# Altium footprint library P6母板4.1.PcbLib: 25 footprints (part 2 of 2)
Each footprint in its own frame and in the unit in brackets; x right, y up, seen from the top. Pads: shape width x height; smd on the part's side, far side on the other; paste and mask are expansions set on the pad; w line width, h text height; cw(c..) or ccw(c..) is an arc to the next point about the centre after c.
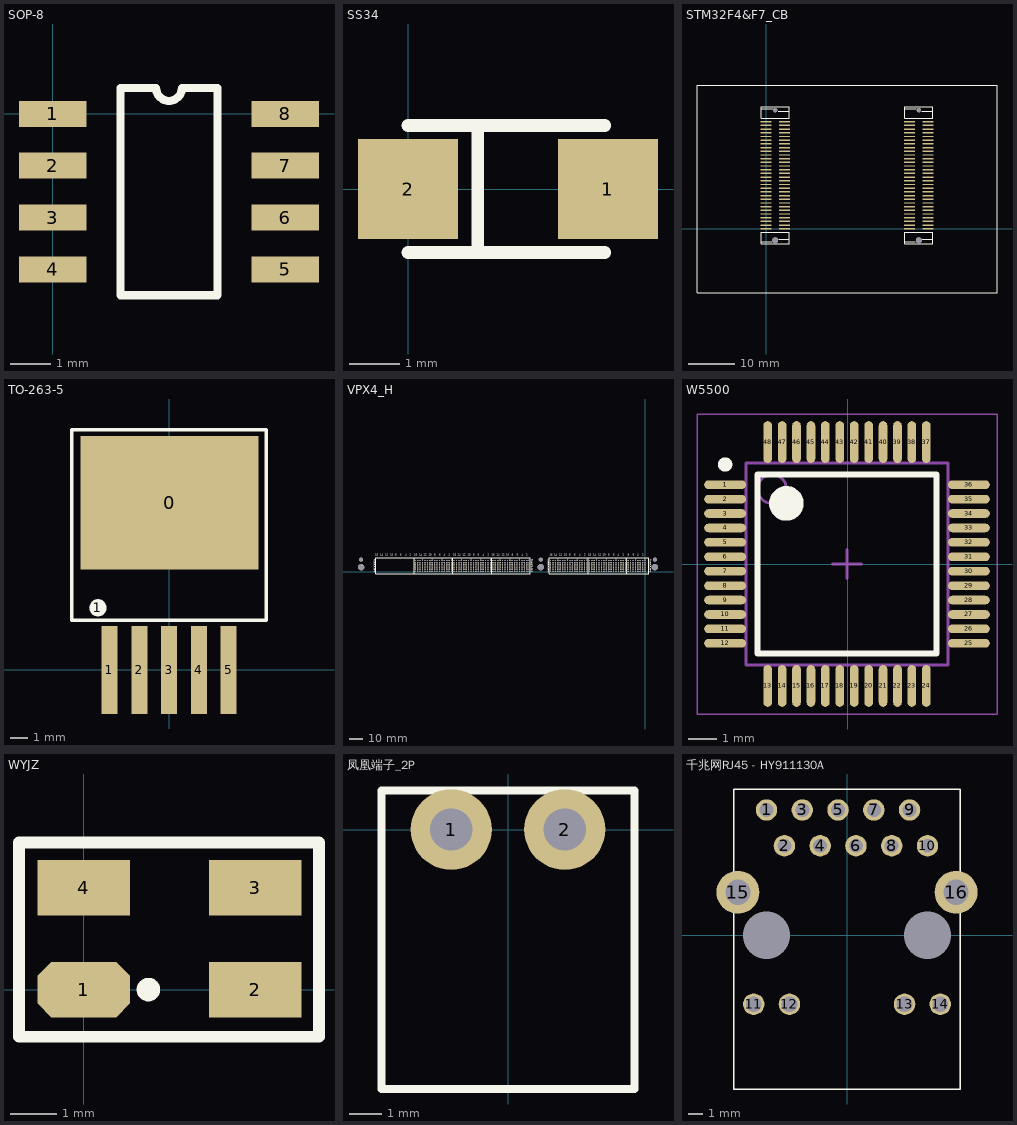
[diagram p1: the footprints below, top view; thin cyan lines are the x and y axes]

## SOP-8 [mil]
height 64.96
pads (8):
  rect 65x25 smd: 1(0,0) 2(0,-50) 3(0,-100) 4(0,-150) 5(224.41,-150) 6(224.41,-100) 7(224.41,-50) 8(224.41,0)
Top Overlay:
  lines w7.87: 65.37,-175 159.04,-175 159.04,25 124.7,25 cw(c112.2,25) 99.7,25 65.37,25 65.37,-175

## SS34 [mm]
height 1.65
pads (2):
  rect 2x2 smd: 1(4,0) 2(0,0)
Top Overlay:
  lines w0.254: 0,-1.27 3.937,-1.27 ; 0,1.27 3.937,1.27 ; 1.397,-1.27 1.397,1.27

## STM32F4&F7_CB [mm]
pads (124):
  rect 2.3x0.3 smd: J1_1(0,0) J1_2(0,0.8) J1_3(0,1.6) J1_4(0,2.4) J1_5(0,3.2) J1_6(0,4) J1_7(0,4.8) J1_8(0,5.6) J1_9(0,6.4) J1_10(0,7.2) J1_11(0,8) J1_12(0,8.8) J1_13(0,9.6) J1_14(0,10.4) J1_15(0,11.2) J1_16(0,12) J1_17(0,12.8) J1_18(0,13.6) J1_19(0,14.4) J1_20(0,15.2) J1_21(0,16) J1_22(0,16.8) J1_23(0,17.6) J1_24(0,18.4) J1_25(0,19.2) J1_26(0,20) J1_27(0,20.8) J1_28(0,21.6) J1_29(0,22.4) J1_30(0,23.2) J1_31(4,23.2) J1_32(4,22.4) J1_33(4,21.6) J1_34(4,20.8) J1_35(4,20) J1_36(4,19.2) J1_37(4,18.4) J1_38(4,17.6) J1_39(4,16.8) J1_40(4,16) J1_41(4,15.2) J1_42(4,14.4) J1_43(4,13.6) J1_44(4,12.8) J1_45(4,12) J1_46(4,11.2) J1_47(4,10.4) J1_48(4,9.6) J1_49(4,8.8) J1_50(4,8) J1_51(4,7.2) J1_52(4,6.4) J1_53(4,5.6) J1_54(4,4.8) J1_55(4,4) J1_56(4,3.2) J1_57(4,2.4) J1_58(4,1.6) J1_59(4,0.8) J1_60(4,0) J2_1(31.1,0.001) J2_2(31.1,0.801) J2_3(31.1,1.601) J2_4(31.1,2.401) J2_5(31.1,3.201) J2_6(31.1,4.001) J2_7(31.1,4.801) J2_8(31.1,5.601) J2_9(31.1,6.401) J2_10(31.1,7.201) J2_11(31.1,8.001) J2_12(31.1,8.801) J2_13(31.1,9.601) J2_14(31.1,10.401) J2_15(31.1,11.201) J2_16(31.1,12.001) J2_17(31.1,12.801) J2_18(31.1,13.601) J2_19(31.1,14.401) J2_20(31.1,15.201) J2_21(31.1,16.001) J2_22(31.1,16.801) J2_23(31.1,17.601) J2_24(31.1,18.401) J2_25(31.1,19.201) J2_26(31.1,20.001) J2_27(31.1,20.801) J2_28(31.1,21.601) J2_29(31.1,22.401) J2_30(31.1,23.201) J2_31(35.1,23.201) J2_32(35.1,22.401) J2_33(35.1,21.601) J2_34(35.1,20.801) J2_35(35.1,20.001) J2_36(35.1,19.201) J2_37(35.1,18.401) J2_38(35.1,17.601) J2_39(35.1,16.801) J2_40(35.1,16.001) J2_41(35.1,15.201) J2_42(35.1,14.401) J2_43(35.1,13.601) J2_44(35.1,12.801) J2_45(35.1,12.001) J2_46(35.1,11.201) J2_47(35.1,10.401) J2_48(35.1,9.601) J2_49(35.1,8.801) J2_50(35.1,8.001) J2_51(35.1,7.201) J2_52(35.1,6.401) J2_53(35.1,5.601) J2_54(35.1,4.801) J2_55(35.1,4.001) J2_56(35.1,3.201) J2_57(35.1,2.401) J2_58(35.1,1.601) J2_59(35.1,0.801) J2_60(35.1,0.001)
  round 1.3 hole 1.3: ""(2,-2.5) ""(33.1,-2.499)
  round 0.9 hole 0.9: ""(2,25.7) ""(33.1,25.701)
Top Overlay:
  lines w0.152: -1,-2.8 1.2,-2.8 ; -1,-0.775 -1,-3.275 5,-3.275 5,-0.775 -0.975,-0.775 ; -1,26 1.5,26 ; 2.6,25.5 5,25.5 ; 2.8,-2.3 5,-2.3 ; 30.1,-2.799 32.3,-2.799 ; 30.1,-0.774 30.1,-3.274 36.1,-3.274 36.1,-0.774 30.125,-0.774 ; 30.1,26.001 32.6,26.001 ; 33.7,25.501 36.1,25.501 ; 33.9,-2.299 36.1,-2.299 ; -14.95,-13.874 50.05,-13.874 50.05,31.126 -14.95,31.126 -14.95,-13.874 ; -1,23.975 5,23.975 5,26.475 -1,26.475 -1,23.975 ; 30.1,23.976 30.1,26.476 36.1,26.476 36.1,23.976 30.1,23.976

## TO-263-5 [mm]
height 0.55
pads (7):
  rect 10.16x7.62 smd: 0(0.025,9.55)
  round 1 on Top Overlay: 1(-4.064,3.556)
  rect 0.914x5.03 smd: 1(-3.41,0) 2(-1.7,0) 3(0,0) 4(1.7,0) 5(3.4,0)
Top Overlay:
  lines w0.2: -5.563,2.845 -5.563,13.741 -2.485,13.741 2.485,13.741 5.563,13.741 5.563,2.845 -5.563,2.845

## VPX4_H [mm]
pads (644):
  round 0.95 hole 0.45: P0_A1(0,0) P0_A2(-1.8,0) P0_A3(-3.6,0) P0_A4(-5.4,0) P0_A5(-7.2,0) P0_A6(-9,0) P0_A7(-10.8,0) P0_A8(-12.6,0) P0_B1(0,1.35) P0_B2(-1.8,1.35) P0_B3(-3.6,1.35) P0_B4(-5.4,1.35) P0_B5(-7.2,1.35) P0_B6(-9,1.35) P0_B7(-10.8,1.35) P0_B8(-12.6,1.35) P0_C1(0,2.7) P0_C2(-1.8,2.7) P0_C3(-3.6,2.7) P0_C4(-5.4,2.7) P0_C5(-7.2,2.7) P0_C6(-9,2.7) P0_C7(-10.8,2.7) P0_C8(-12.6,2.7) P0_D1(0,4.05) P0_D2(-1.8,4.05) P0_D3(-3.6,4.05) P0_D4(-5.4,4.05) P0_D5(-7.2,4.05) P0_D6(-9,4.05) P0_D7(-10.8,4.05) P0_D8(-12.6,4.05) P0_E1(0,5.4) P0_E2(-1.8,5.4) P0_E3(-3.6,5.4) P0_E4(-5.4,5.4) P0_E5(-7.2,5.4) P0_E6(-9,5.4) P0_E7(-10.8,5.4) P0_E8(-12.6,5.4) P0_F1(0,6.75) P0_F2(-1.8,6.75) P0_F3(-3.6,6.75) P0_F4(-5.4,6.75) P0_F5(-7.2,6.75) P0_F6(-9,6.75) P0_F7(-10.8,6.75) P0_F8(-12.6,6.75) P0_G1(0,8.1) P0_G2(-1.8,8.1) P0_G3(-3.6,8.1) P0_G4(-5.4,8.1) P0_G5(-7.2,8.1) P0_G6(-9,8.1) P0_G7(-10.8,8.1) P0_G8(-12.6,8.1) P1_A1(-14.4,0) P1_A2(-16.2,0) P1_A3(-18,0) P1_A4(-19.8,0) P1_A5(-21.6,0) P1_A6(-23.4,0) P1_A7(-25.2,0) P1_A8(-27,0) P1_A9(-28.8,0) P1_A10(-30.6,0) P1_A11(-32.4,0) P1_A12(-34.2,0) P1_A13(-36,0) P1_A14(-37.8,0) P1_A15(-39.6,0) P1_A16(-41.4,0) P1_B1(-14.4,1.35) P1_B2(-16.2,1.35) P1_B3(-18,1.35) P1_B4(-19.8,1.35) P1_B5(-21.6,1.35) P1_B6(-23.4,1.35) P1_B7(-25.2,1.35) P1_B8(-27,1.35) P1_B9(-28.8,1.35) P1_B10(-30.6,1.35) P1_B11(-32.4,1.35) P1_B12(-34.2,1.35) P1_B13(-36,1.35) P1_B14(-37.8,1.35) P1_B15(-39.6,1.35) P1_B16(-41.4,1.35) P1_C1(-14.4,2.7) P1_C2(-16.2,2.7) P1_C3(-18,2.7) P1_C4(-19.8,2.7) P1_C5(-21.6,2.7) P1_C6(-23.4,2.7) P1_C7(-25.2,2.7) P1_C8(-27,2.7) P1_C9(-28.8,2.7) P1_C10(-30.6,2.7) P1_C11(-32.4,2.7) P1_C12(-34.2,2.7) P1_C13(-36,2.7) P1_C14(-37.8,2.7) P1_C15(-39.6,2.7) P1_C16(-41.4,2.7) P1_D1(-14.4,4.05) P1_D2(-16.2,4.05) P1_D3(-18,4.05) P1_D4(-19.8,4.05) P1_D5(-21.6,4.05) P1_D6(-23.4,4.05) P1_D7(-25.2,4.05) P1_D8(-27,4.05) P1_D9(-28.8,4.05) P1_D10(-30.6,4.05) P1_D11(-32.4,4.05) P1_D12(-34.2,4.05) P1_D13(-36,4.05) P1_D14(-37.8,4.05) P1_D15(-39.6,4.05) P1_D16(-41.4,4.05) P1_E1(-14.4,5.4) P1_E2(-16.2,5.4) P1_E3(-18,5.4) P1_E4(-19.8,5.4) P1_E5(-21.6,5.4) P1_E6(-23.4,5.4) P1_E7(-25.2,5.4) P1_E8(-27,5.4) P1_E9(-28.8,5.4) P1_E10(-30.6,5.4) P1_E11(-32.4,5.4) P1_E12(-34.2,5.4) P1_E13(-36,5.4) P1_E14(-37.8,5.4) P1_E15(-39.6,5.4) P1_E16(-41.4,5.4) P1_F1(-14.4,6.75) P1_F2(-16.2,6.75) P1_F3(-18,6.75) P1_F4(-19.8,6.75) P1_F5(-21.6,6.75) P1_F6(-23.4,6.75) P1_F7(-25.2,6.75) P1_F8(-27,6.75) P1_F9(-28.8,6.75) P1_F10(-30.6,6.75) P1_F11(-32.4,6.75) P1_F12(-34.2,6.75) P1_F13(-36,6.75) P1_F14(-37.8,6.75) P1_F15(-39.6,6.75) P1_F16(-41.4,6.75) P1_G1(-14.4,8.1) P1_G2(-16.2,8.1) P1_G3(-18,8.1) P1_G4(-19.8,8.1) P1_G5(-21.6,8.1) P1_G6(-23.4,8.1) P1_G7(-25.2,8.1) P1_G8(-27,8.1) P1_G9(-28.8,8.1) P1_G10(-30.6,8.1) P1_G11(-32.4,8.1) P1_G12(-34.2,8.1) P1_G13(-36,8.1) P1_G14(-37.8,8.1) P1_G15(-39.6,8.1) P1_G16(-41.4,8.1) P2_A1(-43.2,0) P2_A2(-45,0) P2_A3(-46.8,0) P2_A4(-48.6,0) P2_A5(-50.4,0) P2_A6(-52.2,0) P2_A7(-54,0) P2_A8(-55.8,0) P2_A9(-57.6,0) P2_A10(-59.4,0) P2_A11(-61.2,0) P2_A12(-63,0) P2_A13(-64.8,0) P2_A14(-66.6,0) P2_A15(-68.4,0) P2_A16(-70.2,0) P2_B1(-43.2,1.35) P2_B2(-45,1.35) P2_B3(-46.8,1.35) P2_B4(-48.6,1.35) P2_B5(-50.4,1.35) P2_B6(-52.2,1.35) P2_B7(-54,1.35) P2_B8(-55.8,1.35) P2_B9(-57.6,1.35) P2_B10(-59.4,1.35) P2_B11(-61.2,1.35) P2_B12(-63,1.35) P2_B13(-64.8,1.35) P2_B14(-66.6,1.35) P2_B15(-68.4,1.35) P2_B16(-70.2,1.35) P2_C1(-43.2,2.7) P2_C2(-45,2.7) P2_C3(-46.8,2.7) P2_C4(-48.6,2.7) P2_C5(-50.4,2.7) P2_C6(-52.2,2.7) P2_C7(-54,2.7) P2_C8(-55.8,2.7) P2_C9(-57.6,2.7) P2_C10(-59.4,2.7) P2_C11(-61.2,2.7) P2_C12(-63,2.7) P2_C13(-64.8,2.7) P2_C14(-66.6,2.7) P2_C15(-68.4,2.7) P2_C16(-70.2,2.7) P2_D1(-43.2,4.05) P2_D2(-45,4.05) P2_D3(-46.8,4.05) P2_D4(-48.6,4.05) P2_D5(-50.4,4.05) P2_D6(-52.2,4.05) P2_D7(-54,4.05) P2_D8(-55.8,4.05) P2_D9(-57.6,4.05) P2_D10(-59.4,4.05) P2_D11(-61.2,4.05) P2_D12(-63,4.05) P2_D13(-64.8,4.05) P2_D14(-66.6,4.05) P2_D15(-68.4,4.05) P2_D16(-70.2,4.05) P2_E1(-43.2,5.4) P2_E2(-45,5.4) P2_E3(-46.8,5.4) P2_E4(-48.6,5.4) P2_E5(-50.4,5.4) P2_E6(-52.2,5.4) P2_E7(-54,5.4) P2_E8(-55.8,5.4) P2_E9(-57.6,5.4) P2_E10(-59.4,5.4) P2_E11(-61.2,5.4) P2_E12(-63,5.4) P2_E13(-64.8,5.4) P2_E14(-66.6,5.4) P2_E15(-68.4,5.4) P2_E16(-70.2,5.4) P2_F1(-43.2,6.75) P2_F2(-45,6.75) P2_F3(-46.8,6.75) P2_F4(-48.6,6.75) P2_F5(-50.4,6.75) P2_F6(-52.2,6.75) P2_F7(-54,6.75) P2_F8(-55.8,6.75) P2_F9(-57.6,6.75) P2_F10(-59.4,6.75) P2_F11(-61.2,6.75) P2_F12(-63,6.75) P2_F13(-64.8,6.75) P2_F14(-66.6,6.75) P2_F15(-68.4,6.75) P2_F16(-70.2,6.75) P2_G1(-43.2,8.1) P2_G2(-45,8.1) P2_G3(-46.8,8.1) P2_G4(-48.6,8.1) P2_G5(-50.4,8.1) P2_G6(-52.2,8.1) P2_G7(-54,8.1) P2_G8(-55.8,8.1) P2_G9(-57.6,8.1) P2_G10(-59.4,8.1) P2_G11(-61.2,8.1) P2_G12(-63,8.1) P2_G13(-64.8,8.1) P2_G14(-66.6,8.1) P2_G15(-68.4,8.1) P2_G16(-70.2,8.1) P3_A1(-86.02,0) P3_A2(-87.82,0) P3_A3(-89.62,0) P3_A4(-91.42,0) P3_A5(-93.22,0) P3_A6(-95.02,0) P3_A7(-96.82,0) P3_A8(-98.62,0) P3_A9(-100.42,0) P3_A10(-102.22,0) P3_A11(-104.02,0) P3_A12(-105.82,0) P3_A13(-107.62,0) P3_A14(-109.42,0) P3_A15(-111.22,0) P3_A16(-113.02,0) P3_B1(-86.02,1.35) P3_B2(-87.82,1.35) P3_B3(-89.62,1.35) P3_B4(-91.42,1.35) P3_B5(-93.22,1.35) P3_B6(-95.02,1.35) P3_B7(-96.82,1.35) P3_B8(-98.62,1.35) P3_B9(-100.42,1.35) P3_B10(-102.22,1.35) P3_B11(-104.02,1.35) P3_B12(-105.82,1.35) P3_B13(-107.62,1.35) P3_B14(-109.42,1.35) P3_B15(-111.22,1.35) P3_B16(-113.02,1.35) P3_C1(-86.02,2.7) P3_C2(-87.82,2.7) P3_C3(-89.62,2.7) P3_C4(-91.42,2.7) P3_C5(-93.22,2.7) P3_C6(-95.02,2.7) P3_C7(-96.82,2.7) P3_C8(-98.62,2.7) P3_C9(-100.42,2.7) P3_C10(-102.22,2.7) P3_C11(-104.02,2.7) P3_C12(-105.82,2.7) P3_C13(-107.62,2.7) P3_C14(-109.42,2.7) P3_C15(-111.22,2.7) P3_C16(-113.02,2.7) P3_D1(-86.02,4.05) P3_D2(-87.82,4.05) P3_D3(-89.62,4.05) P3_D4(-91.42,4.05) P3_D5(-93.22,4.05) P3_D6(-95.02,4.05) P3_D7(-96.82,4.05) P3_D8(-98.62,4.05) P3_D9(-100.42,4.05) P3_D10(-102.22,4.05) P3_D11(-104.02,4.05) P3_D12(-105.82,4.05) P3_D13(-107.62,4.05) P3_D14(-109.42,4.05) P3_D15(-111.22,4.05) P3_D16(-113.02,4.05) P3_E1(-86.02,5.4) P3_E2(-87.82,5.4) P3_E3(-89.62,5.4) P3_E4(-91.42,5.4) P3_E5(-93.22,5.4) P3_E6(-95.02,5.4) P3_E7(-96.82,5.4) P3_E8(-98.62,5.4) P3_E9(-100.42,5.4) P3_E10(-102.22,5.4) P3_E11(-104.02,5.4) P3_E12(-105.82,5.4) P3_E13(-107.62,5.4) P3_E14(-109.42,5.4) P3_E15(-111.22,5.4) P3_E16(-113.02,5.4) P3_F1(-86.02,6.75) P3_F2(-87.82,6.75) P3_F3(-89.62,6.75) P3_F4(-91.42,6.75) P3_F5(-93.22,6.75) P3_F6(-95.02,6.75) P3_F7(-96.82,6.75) P3_F8(-98.62,6.75) P3_F9(-100.42,6.75) P3_F10(-102.22,6.75) P3_F11(-104.02,6.75) P3_F12(-105.82,6.75) P3_F13(-107.62,6.75) P3_F14(-109.42,6.75) P3_F15(-111.22,6.75) P3_F16(-113.02,6.75) P3_G1(-86.02,8.1) P3_G2(-87.82,8.1) P3_G3(-89.62,8.1) P3_G4(-91.42,8.1) P3_G5(-93.22,8.1) P3_G6(-95.02,8.1) P3_G7(-96.82,8.1) P3_G8(-98.62,8.1) P3_G9(-100.42,8.1) P3_G10(-102.22,8.1) P3_G11(-104.02,8.1) P3_G12(-105.82,8.1) P3_G13(-107.62,8.1) P3_G14(-109.42,8.1) P3_G15(-111.22,8.1) P3_G16(-113.02,8.1) P4_A1(-114.82,0) P4_A2(-116.62,0) P4_A3(-118.42,0) P4_A4(-120.22,0) P4_A5(-122.02,0) P4_A6(-123.82,0) P4_A7(-125.62,0) P4_A8(-127.42,0) P4_A9(-129.22,0) P4_A10(-131.02,0) P4_A11(-132.82,0) P4_A12(-134.62,0) P4_A13(-136.42,0) P4_A14(-138.22,0) P4_A15(-140.02,0) P4_A16(-141.82,0) P4_B1(-114.82,1.35) P4_B2(-116.62,1.35) P4_B3(-118.42,1.35) P4_B4(-120.22,1.35) P4_B5(-122.02,1.35) P4_B6(-123.82,1.35) P4_B7(-125.62,1.35) P4_B8(-127.42,1.35) P4_B9(-129.22,1.35) P4_B10(-131.02,1.35) P4_B11(-132.82,1.35) P4_B12(-134.62,1.35) P4_B13(-136.42,1.35) P4_B14(-138.22,1.35) P4_B15(-140.02,1.35) P4_B16(-141.82,1.35) P4_C1(-114.82,2.7) P4_C2(-116.62,2.7) P4_C3(-118.42,2.7) P4_C4(-120.22,2.7) P4_C5(-122.02,2.7) P4_C6(-123.82,2.7) P4_C7(-125.62,2.7) P4_C8(-127.42,2.7) P4_C9(-129.22,2.7) P4_C10(-131.02,2.7) P4_C11(-132.82,2.7) P4_C12(-134.62,2.7) P4_C13(-136.42,2.7) P4_C14(-138.22,2.7) P4_C15(-140.02,2.7) P4_C16(-141.82,2.7) P4_D1(-114.82,4.05) P4_D2(-116.62,4.05) P4_D3(-118.42,4.05) P4_D4(-120.22,4.05) P4_D5(-122.02,4.05) P4_D6(-123.82,4.05) P4_D7(-125.62,4.05) P4_D8(-127.42,4.05) P4_D9(-129.22,4.05) P4_D10(-131.02,4.05) P4_D11(-132.82,4.05) P4_D12(-134.62,4.05) P4_D13(-136.42,4.05) P4_D14(-138.22,4.05) P4_D15(-140.02,4.05) P4_D16(-141.82,4.05) P4_E1(-114.82,5.4) P4_E2(-116.62,5.4) P4_E3(-118.42,5.4) P4_E4(-120.22,5.4) P4_E5(-122.02,5.4) P4_E6(-123.82,5.4) P4_E7(-125.62,5.4) P4_E8(-127.42,5.4) P4_E9(-129.22,5.4) P4_E10(-131.02,5.4) P4_E11(-132.82,5.4) P4_E12(-134.62,5.4) P4_E13(-136.42,5.4) P4_E14(-138.22,5.4) P4_E15(-140.02,5.4) P4_E16(-141.82,5.4) P4_F1(-114.82,6.75) P4_F2(-116.62,6.75) P4_F3(-118.42,6.75) P4_F4(-120.22,6.75) P4_F5(-122.02,6.75) P4_F6(-123.82,6.75) P4_F7(-125.62,6.75) P4_F8(-127.42,6.75) P4_F9(-129.22,6.75) P4_F10(-131.02,6.75) P4_F11(-132.82,6.75) P4_F12(-134.62,6.75) P4_F13(-136.42,6.75) P4_F14(-138.22,6.75) P4_F15(-140.02,6.75) P4_F16(-141.82,6.75) P4_G1(-114.82,8.1) P4_G2(-116.62,8.1) P4_G3(-118.42,8.1) P4_G4(-120.22,8.1) P4_G5(-122.02,8.1) P4_G6(-123.82,8.1) P4_G7(-125.62,8.1) P4_G8(-127.42,8.1) P4_G9(-129.22,8.1) P4_G10(-131.02,8.1) P4_G11(-132.82,8.1) P4_G12(-134.62,8.1) P4_G13(-136.42,8.1) P4_G14(-138.22,8.1) P4_G15(-140.02,8.1) P4_G16(-141.82,8.1) P5_A1(-143.62,0) P5_A2(-145.42,0) P5_A3(-147.22,0) P5_A4(-149.02,0) P5_A5(-150.82,0) P5_A6(-152.62,0) P5_A7(-154.42,0) P5_A8(-156.22,0) P5_A9(-158.02,0) P5_A10(-159.82,0) P5_A11(-161.62,0) P5_A12(-163.42,0) P5_A13(-165.22,0) P5_A14(-167.02,0) P5_A15(-168.82,0) P5_A16(-170.62,0) P5_B1(-143.62,1.35) P5_B2(-145.42,1.35) P5_B3(-147.22,1.35) P5_B4(-149.02,1.35) P5_B5(-150.82,1.35) P5_B6(-152.62,1.35) P5_B7(-154.42,1.35) P5_B8(-156.22,1.35) P5_B9(-158.02,1.35) P5_B10(-159.82,1.35) P5_B11(-161.62,1.35) P5_B12(-163.42,1.35) P5_B13(-165.22,1.35) P5_B14(-167.02,1.35) P5_B15(-168.82,1.35) P5_B16(-170.62,1.35) P5_C1(-143.62,2.7) P5_C2(-145.42,2.7) P5_C3(-147.22,2.7) P5_C4(-149.02,2.7) P5_C5(-150.82,2.7) P5_C6(-152.62,2.7) P5_C7(-154.42,2.7) P5_C8(-156.22,2.7) P5_C9(-158.02,2.7) P5_C10(-159.82,2.7) P5_C11(-161.62,2.7) P5_C12(-163.42,2.7) P5_C13(-165.22,2.7) P5_C14(-167.02,2.7) P5_C15(-168.82,2.7) P5_C16(-170.62,2.7) P5_D1(-143.62,4.05) P5_D2(-145.42,4.05) P5_D3(-147.22,4.05) P5_D4(-149.02,4.05) P5_D5(-150.82,4.05) P5_D6(-152.62,4.05) P5_D7(-154.42,4.05) P5_D8(-156.22,4.05) P5_D9(-158.02,4.05) P5_D10(-159.82,4.05) P5_D11(-161.62,4.05) P5_D12(-163.42,4.05) P5_D13(-165.22,4.05) P5_D14(-167.02,4.05) P5_D15(-168.82,4.05) P5_D16(-170.62,4.05) P5_E1(-143.62,5.4) P5_E2(-145.42,5.4) P5_E3(-147.22,5.4) P5_E4(-149.02,5.4) P5_E5(-150.82,5.4) P5_E6(-152.62,5.4) P5_E7(-154.42,5.4) P5_E8(-156.22,5.4) P5_E9(-158.02,5.4) P5_E10(-159.82,5.4) P5_E11(-161.62,5.4) P5_E12(-163.42,5.4) P5_E13(-165.22,5.4) P5_E14(-167.02,5.4) P5_E15(-168.82,5.4) P5_E16(-170.62,5.4) P5_F1(-143.62,6.75) P5_F2(-145.42,6.75) P5_F3(-147.22,6.75) P5_F4(-149.02,6.75) P5_F5(-150.82,6.75) P5_F6(-152.62,6.75) P5_F7(-154.42,6.75) P5_F8(-156.22,6.75) P5_F9(-158.02,6.75) P5_F10(-159.82,6.75) P5_F11(-161.62,6.75) P5_F12(-163.42,6.75) P5_F13(-165.22,6.75) P5_F14(-167.02,6.75) P5_F15(-168.82,6.75) P5_F16(-170.62,6.75) P5_G1(-143.62,8.1) P5_G2(-145.42,8.1) P5_G3(-147.22,8.1) P5_G4(-149.02,8.1) P5_G5(-150.82,8.1) P5_G6(-152.62,8.1) P5_G7(-154.42,8.1) P5_G8(-156.22,8.1) P5_G9(-158.02,8.1) P5_G10(-159.82,8.1) P5_G11(-161.62,8.1) P5_G12(-163.42,8.1) P5_G13(-165.22,8.1) P5_G14(-167.02,8.1) P5_G15(-168.82,8.1) P5_G16(-170.62,8.1)
  round 4.65 hole 4.65: ""(-210.8,3.25) ""(-77.45,3.25) ""(7.25,3.25)
  round 3 hole 3: ""(-210.8,8.75) ""(-77.45,8.75) ""(7.25,8.75)
  round 0.6 hole 0.6: ""(-165.22,9.35) ""(-158.02,9.35) ""(-150.82,9.35) ""(-143.62,9.35) ""(-136.42,9.35) ""(-129.22,9.35) ""(-122.02,9.35) ""(-114.82,9.35) ""(-107.62,9.35) ""(-100.42,9.35) ""(-93.22,9.35) ""(-86.02,9.35) ""(-64.8,9.35) ""(-57.6,9.35) ""(-50.4,9.35) ""(-43.2,9.35) ""(-36,9.35) ""(-28.8,9.35) ""(-21.6,9.35) ""(-14.4,9.35) ""(-7.2,9.35) ""(0,9.35)
Top Overlay:
  lines w0.254: -171.362,-1.5 -171.362,10.31 ; -171.362,-1.5 -142.66,-1.5 ; -171.362,-1.5 -200.064,-1.5 -200.064,10.31 -171.362,10.31 ; -171.362,10.31 -142.66,10.31 ; -142.66,-1.5 -142.66,10.31 ; -142.66,-1.5 -113.98,-1.5 -113.98,10.31 -142.66,10.31 ; -113.86,-1.5 -85.18,-1.5 -85.18,10.31 -113.86,10.31 -113.86,-1.5 ; -71.04,-1.5 -42.36,-1.5 -42.36,10.31 -71.04,10.31 -71.04,-1.5 ; -42.24,-1.5 -13.56,-1.5 -13.56,10.31 -42.24,10.31 -42.24,-1.5 ; -13.44,-1.5 2.64,-1.5 2.64,10.31 -13.44,10.31 -13.44,-1.5
  text "6" at -181.753,11.65 h1
  text "8" at -185.353,11.65 h1
  text "4" at -178.153,11.65 h1
  text "2" at -174.553,11.65 h1
  text "10" at -189.37,11.65 h1
  text "12" at -192.97,11.65 h1
  text "16" at -200.17,11.65 h1
  text "14" at -196.57,11.65 h1
  text "6" at -152.953,11.65 h1
  text "8" at -156.553,11.65 h1
  text "4" at -149.353,11.65 h1
  text "2" at -145.753,11.65 h1
  text "10" at -160.57,11.65 h1
  text "12" at -164.17,11.65 h1
  text "16" at -171.37,11.65 h1
  text "14" at -167.77,11.65 h1
  text "F" at -201.611,6.25 h1
  text "E" at -201.611,4.9 h1
  text "D" at -201.611,3.55 h1
  text "C" at -201.611,2.2 h1
  text "G" at -201.611,7.6 h1
  text "A" at -201.611,-0.5 h1
  text "B" at -201.611,0.85 h1
  text "6" at -124.153,11.65 h1
  text "8" at -127.753,11.65 h1
  text "4" at -120.553,11.65 h1
  text "2" at -116.953,11.65 h1
  text "10" at -131.77,11.65 h1
  text "12" at -135.37,11.65 h1
  text "16" at -142.57,11.65 h1
  text "14" at -138.97,11.65 h1
  text "6" at -95.353,11.65 h1
  text "8" at -98.953,11.65 h1
  text "4" at -91.753,11.65 h1
  text "2" at -88.153,11.65 h1
  text "10" at -102.97,11.65 h1
  text "12" at -106.57,11.65 h1
  text "16" at -113.77,11.65 h1
  text "14" at -110.17,11.65 h1
  text "6" at -52.533,11.65 h1
  text "8" at -56.133,11.65 h1
  text "4" at -48.933,11.65 h1
  text "2" at -45.333,11.65 h1
  text "10" at -60.15,11.65 h1
  text "12" at -63.75,11.65 h1
  text "16" at -70.95,11.65 h1
  text "14" at -67.35,11.65 h1
  text "6" at -23.733,11.65 h1
  text "8" at -27.333,11.65 h1
  text "4" at -20.133,11.65 h1
  text "2" at -16.533,11.65 h1
  text "10" at -31.35,11.65 h1
  text "12" at -34.95,11.65 h1
  text "16" at -42.15,11.65 h1
  text "14" at -38.55,11.65 h1
  text "2" at -2.133,11.65 h1
  text "4" at -5.733,11.65 h1
  text "8" at -12.933,11.65 h1
  text "6" at -9.333,11.65 h1
  text "B" at 3.267,0.85 h1
  text "A" at 3.267,-0.5 h1
  text "G" at 3.267,7.6 h1
  text "C" at 3.267,2.2 h1
  text "D" at 3.267,3.55 h1
  text "E" at 3.267,4.9 h1
  text "F" at 3.267,6.25 h1
  text "F" at -84.553,6.25 h1
  text "E" at -84.553,4.9 h1
  text "D" at -84.553,3.55 h1
  text "C" at -84.553,2.2 h1
  text "G" at -84.553,7.6 h1
  text "A" at -84.553,-0.5 h1
  text "B" at -84.553,0.85 h1
  text "B" at -72.333,0.85 h1
  text "A" at -72.333,-0.5 h1
  text "G" at -72.333,7.6 h1
  text "C" at -72.333,2.2 h1
  text "D" at -72.333,3.55 h1
  text "E" at -72.333,4.9 h1
  text "F" at -72.333,6.25 h1
Bottom Overlay:
  text "16" at -198.67,11.65 h1
  text "14" at -195.07,11.65 h1
  text "12" at -191.47,11.65 h1
  text "10" at -187.87,11.65 h1
  text "6" at -181.087,11.65 h1
  text "8" at -184.687,11.65 h1
  text "4" at -177.487,11.65 h1
  text "2" at -173.887,11.65 h1
  text "16" at -169.87,11.65 h1
  text "14" at -166.27,11.65 h1
  text "12" at -162.67,11.65 h1
  text "10" at -159.07,11.65 h1
  text "6" at -152.287,11.65 h1
  text "8" at -155.887,11.65 h1
  text "4" at -148.687,11.65 h1
  text "2" at -145.087,11.65 h1
  text "F" at -200.945,6.25 h1
  text "E" at -200.945,4.9 h1
  text "D" at -200.945,3.55 h1
  text "C" at -200.945,2.2 h1
  text "G" at -200.945,7.6 h1
  text "A" at -200.945,-0.5 h1
  text "B" at -200.945,0.85 h1
  text "16" at -141.07,11.65 h1
  text "14" at -137.47,11.65 h1
  text "12" at -133.87,11.65 h1
  text "10" at -130.27,11.65 h1
  text "6" at -123.487,11.65 h1
  text "8" at -127.087,11.65 h1
  text "4" at -119.887,11.65 h1
  text "2" at -116.287,11.65 h1
  text "16" at -112.27,11.65 h1
  text "14" at -108.67,11.65 h1
  text "12" at -105.07,11.65 h1
  text "10" at -101.47,11.65 h1
  text "6" at -94.687,11.65 h1
  text "8" at -98.287,11.65 h1
  text "4" at -91.087,11.65 h1
  text "2" at -87.487,11.65 h1
  text "16" at -69.45,11.65 h1
  text "14" at -65.85,11.65 h1
  text "12" at -62.25,11.65 h1
  text "10" at -58.65,11.65 h1
  text "6" at -51.867,11.65 h1
  text "8" at -55.467,11.65 h1
  text "4" at -48.267,11.65 h1
  text "2" at -44.667,11.65 h1
  text "16" at -40.65,11.65 h1
  text "14" at -37.05,11.65 h1
  text "12" at -33.45,11.65 h1
  text "10" at -29.85,11.65 h1
  text "6" at -23.067,11.65 h1
  text "8" at -26.667,11.65 h1
  text "4" at -19.467,11.65 h1
  text "2" at -15.867,11.65 h1
  text "B" at 3.933,0.85 h1
  text "A" at 3.933,-0.5 h1
  text "G" at 3.933,7.6 h1
  text "C" at 3.933,2.2 h1
  text "D" at 3.933,3.55 h1
  text "E" at 3.933,4.9 h1
  text "F" at 3.933,6.25 h1
  text "2" at -1.467,11.65 h1
  text "4" at -5.067,11.65 h1
  text "8" at -12.267,11.65 h1
  text "6" at -8.667,11.65 h1
  text "F" at -83.887,6.25 h1
  text "E" at -83.887,4.9 h1
  text "D" at -83.887,3.55 h1
  text "C" at -83.887,2.2 h1
  text "G" at -83.887,7.6 h1
  text "A" at -83.887,-0.5 h1
  text "B" at -83.887,0.85 h1
  text "B" at -71.667,0.85 h1
  text "A" at -71.667,-0.5 h1
  text "G" at -71.667,7.6 h1
  text "C" at -71.667,2.2 h1
  text "D" at -71.667,3.55 h1
  text "E" at -71.667,4.9 h1
  text "F" at -71.667,6.25 h1

## W5500 [mm]
height 1.65
pads (48):
  oval 1.45x0.3 smd: 1(-4.25,2.75) 2(-4.25,2.25) 3(-4.25,1.75) 4(-4.25,1.25) 5(-4.25,0.75) 6(-4.25,0.25) 7(-4.25,-0.25) 8(-4.25,-0.75) 9(-4.25,-1.25) 10(-4.25,-1.75) 11(-4.25,-2.25) 12(-4.25,-2.75) 25(4.2,-2.75) 26(4.2,-2.25) 27(4.2,-1.75) 28(4.2,-1.25) 29(4.2,-0.75) 30(4.2,-0.25) 31(4.2,0.25) 32(4.2,0.75) 33(4.2,1.25) 34(4.2,1.75) 35(4.2,2.25) 36(4.2,2.75)
  oval 0.3x1.45 smd: 13(-2.775,-4.225) 14(-2.275,-4.225) 15(-1.775,-4.225) 16(-1.275,-4.225) 17(-0.775,-4.225) 18(-0.275,-4.225) 19(0.225,-4.225) 20(0.725,-4.225) 21(1.225,-4.225) 22(1.725,-4.225) 23(2.225,-4.225) 24(2.725,-4.225) 37(2.725,4.225) 38(2.225,4.225) 39(1.725,4.225) 40(1.225,4.225) 41(0.725,4.225) 42(0.225,4.225) 43(-0.275,4.225) 44(-0.775,4.225) 45(-1.275,4.225) 46(-1.775,4.225) 47(-2.275,4.225) 48(-2.775,4.225)
Top Overlay:
  circle w0.6: c-2.125,2.1 r0.3
  circle w0.25: c-4.25,3.45 r0.125
  lines w0.2: -3.125,-3.1 3.075,-3.1 3.075,3.1 -3.125,3.1 -3.125,-3.1
Mechanical 13:
  circle w0.1: c-2.625,2.6 r0.5
  lines w0.1: -3.525,-3.5 3.475,-3.5 3.475,3.5 -3.525,3.5 -3.525,-3.5
Mechanical 15:
  lines w0.05: -5.225,-5.2 5.175,-5.2 5.175,5.2 -5.225,5.2 -5.225,-5.2
  lines w0.1: -0.525,0 0.475,0 ; -0.025,-0.5 -0.025,0.5
3D body: height 1.6, standoff 0.05, extent -3.525,-3.5 3.475,3.5

## WYJZ [mm]
height 1.65
pads (4):
  oct 2x1.2 smd: 1(0,0)
  rect 2x1.2 smd: 2(3.7,0) 3(3.7,2.2) 4(0,2.2)
Top Overlay:
  circle w0.254: c1.397,0 r0.127
  lines w0.254: -1.397,-1.016 -1.397,3.175 5.08,3.175 5.08,-1.016 -1.397,-1.016

## 凤凰端子_2P [mm]
height 1.65
pads (2):
  round 2.5 hole 1.3: 1(-1.75,0) 2(1.75,0)
Top Overlay:
  lines w0.254: -3.9,-8.001 -3.9,1.2 3.9,1.2 3.9,-8 -3.9,-8

## 千兆网RJ45 - HY911130A [mil]
height 64.96
pads (18):
  round 60 hole 38.98: 1(-225,350) 2(-175,250) 3(-125,350) 4(-75,250) 5(-25,350) 6(25,250) 7(75,350) 8(125,250) 9(175,350) 10(225,250)
  round 60 hole 44.09: 11(-260.83,-192.91) 12(-160.83,-192.91) 13(160.83,-192.91) 14(260.83,-192.91)
  round 120 hole 70: 15(-304.92,120.08) 16(304.92,120.08)
  round 128 hole 131.89: " "(-225,0) " "(225,0)
Top Overlay:
  lines w3.94: -316.93,-429.92 316.93,-429.92 316.93,408.66 -316.93,408.66 -316.93,-429.92
Mechanical 7:
  lines w1: -316.93,-429.92 316.93,-429.92 316.93,408.66 -316.93,408.66 -316.93,-429.92